# Altium footprint library SparkFun-Connectors.PCBLIB: 305 footprints (part 4 of 20)
Each footprint in its own frame and in the unit in brackets; x right, y up, seen from the top. Pads: shape width x height; smd on the part's side, far side on the other; paste and mask are expansions set on the pad; w line width, h text height; cw(c..) or ccw(c..) is an arc to the next point about the centre after c.
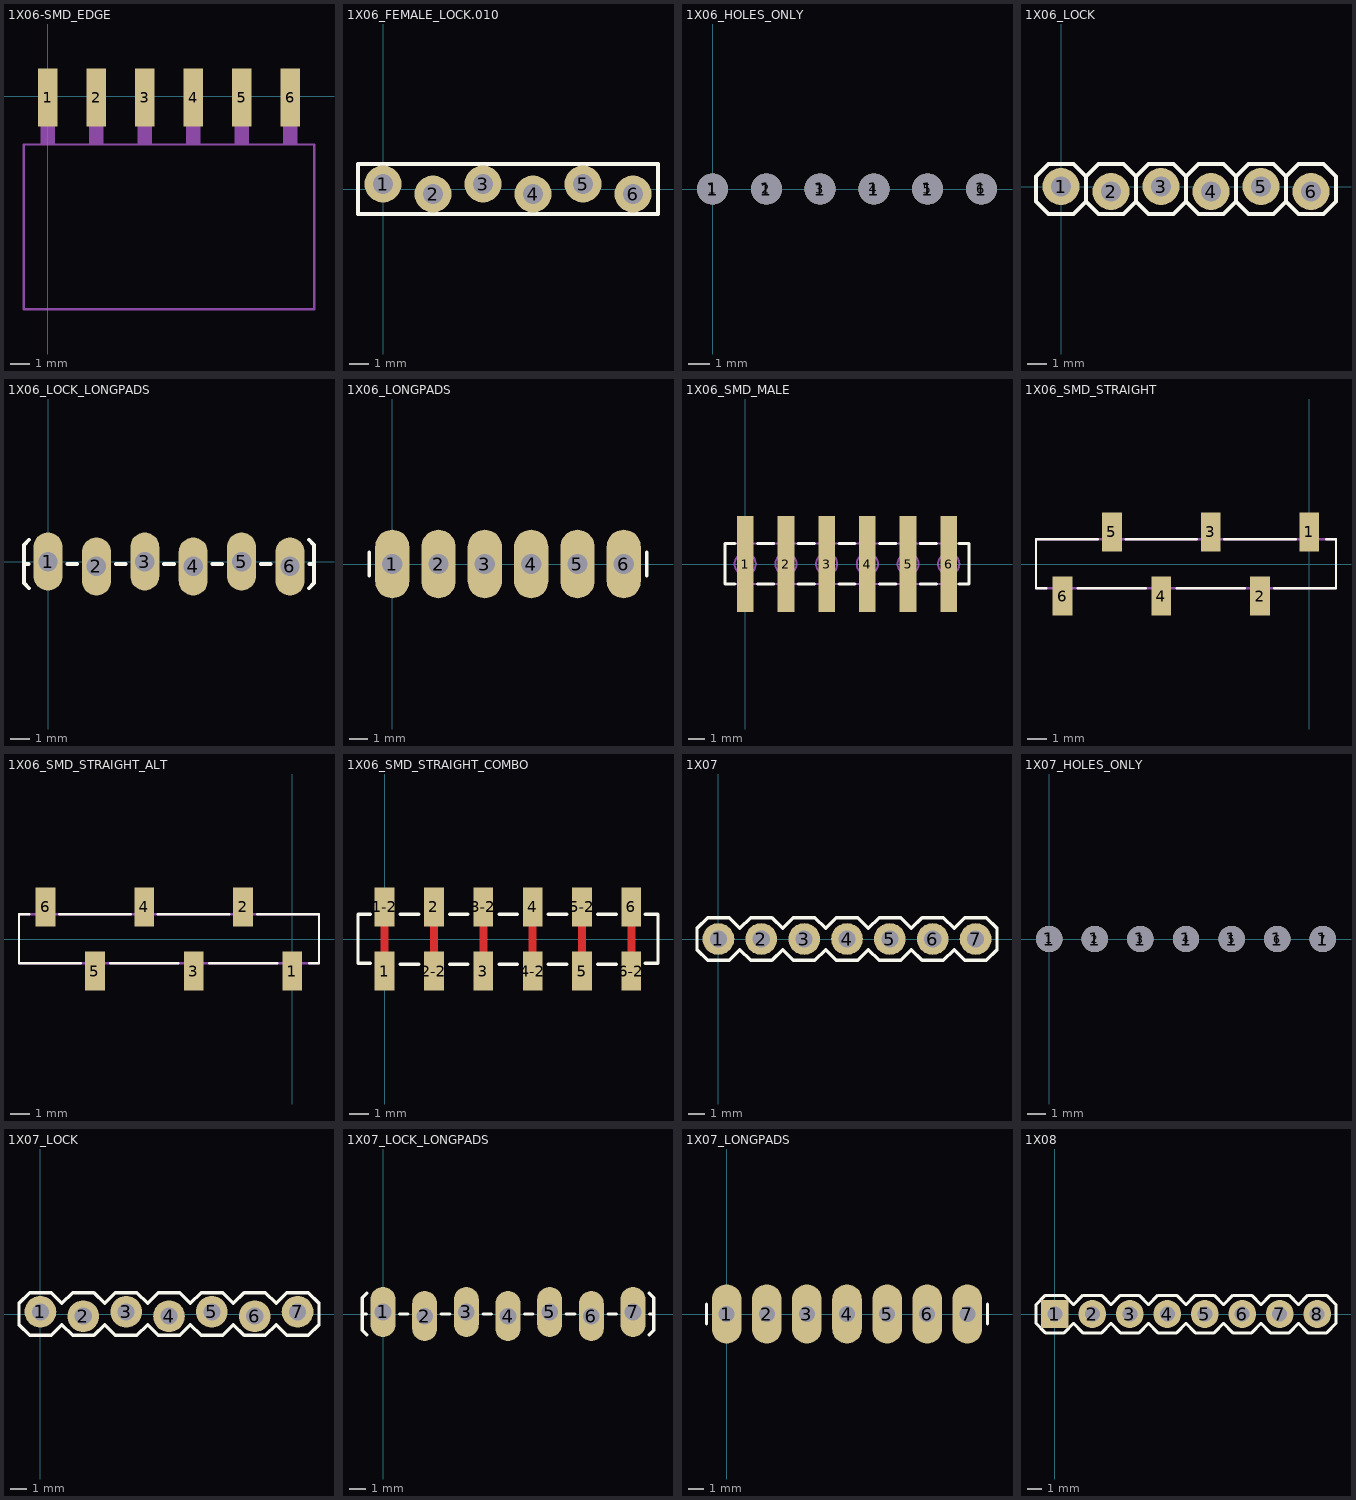
[diagram p3: the footprints below, top view; thin cyan lines are the x and y axes]

## 1X06-SMD_EDGE [mil]
pads (6):
  rect 40x119 smd: 1(0,-3.15) 2(100,-3.15) 3(200,-3.15) 4(300,-3.15) 5(400,-3.15) 6(500,-3.15)
Mechanical 16:
  rectangle: -15,-98 15,11
  rectangle: 85,-98 115,11
  rectangle: 185,-98 215,11
  rectangle: 285,-98 315,11
  rectangle: 385,-98 415,11
  rectangle: 485,-98 515,11
  lines w5: -50,-440 -50,-100 550,-100 550,-440 -50,-440
  text "thru-hole vertical Female Header" at 0,-250 h24.8
  text "used as an SMD part" at 0,-300 h24.8
  text "(placed horizontally, at board's edge)" at 0,-350 h24.8

## 1X06_FEMALE_LOCK.010 [mil]
pads (6):
  round 74 hole 40: 1(0,10) 2(100,-10) 3(200,10) 4(300,-10) 5(400,10) 6(500,-10)
Top Overlay:
  lines w8: -50,-50 -50,50 550,50 550,-50 -50,-50
Mechanical 16:
  rectangle: -12.5,-7.5 13,8
  rectangle: 88,-7.5 113,8
  rectangle: 188,-7.5 213,8
  rectangle: 288,-7.5 313,8
  rectangle: 388,-7.5 413,8
  rectangle: 488,-7.5 513,8

## 1X06_HOLES_ONLY [mil]
pads (12):
  round 32 hole 35: 1(0,0) 2(100,0) 3(200,0) 4(300,0) 5(400,0) 6(500,0)
  round 58 hole 58: 1(0,0) 1(100,0) 1(200,0) 1(300,0) 1(400,0) 1(500,0)
Mechanical 16:
  circle w5: c0,0 r25
  circle w5: c100,0 r25
  circle w5: c200,0 r25
  circle w5: c300,0 r25
  circle w5: c400,0 r25
  circle w5: c500,0 r25

## 1X06_LOCK [mil]
pads (6):
  round 74 hole 40: 1(0,0) 2(100,-10) 3(200,0) 4(300,-10) 5(400,0) 6(500,-10)
Top Overlay:
  lines w8: 50,-30 75,-55 125,-55 150,-30 ; 50,-30 25,-55 -25,-55 -50,-30 -50,20 -25,45 25,45 50,20 ; 50,-30 50,20 ; 50,20 75,45 125,45 150,20 ; 150,-30 175,-55 225,-55 250,-30 ; 150,-30 150,20 ; 150,20 175,45 225,45 250,20 ; 250,-30 275,-55 325,-55 350,-30 ; 250,-30 250,20 ; 250,20 275,45 325,45 350,20 ; 350,-30 375,-55 425,-55 450,-30 ; 350,-30 350,20 ; 350,20 375,45 425,45 450,20 ; 450,-30 475,-55 525,-55 550,-30 550,20 525,45 475,45 450,20 ; 450,-30 450,20
Mechanical 16:
  rectangle: -11.5,-16.5 12,7
  rectangle: 89,-16.5 112,7
  rectangle: 189,-16.5 212,7
  rectangle: 289,-16.5 312,7
  rectangle: 389,-16.5 412,7
  rectangle: 489,-16.5 512,7

## 1X06_LOCK_LONGPADS [mil]
pads (6):
  oval 60x120 hole 40: 1(0,0) 2(100,-10) 3(200,0) 4(300,-10) 5(400,0) 6(500,-10)
Top Overlay:
  lines w8: -40,-5 -50,-5 ; -39,-55 -50,-44 -50,-5 ; -39,45 -50,34 -50,-5 ; 40,-5 60,-5 ; 140,-5 160,-5 ; 240,-5 260,-5 ; 340,-5 360,-5 ; 440,-5 460,-5 ; 539,-55 550,-44 550,-5 ; 539,45 550,34 550,-5 ; 540,-5 550,-5
Mechanical 16:
  rectangle: -11.5,-16.5 12,7
  rectangle: 89,-16.5 112,7
  rectangle: 189,-16.5 212,7
  region: 312.25,-16.25 312.25,6.75 288.75,6.75 288.75,-16.25
  rectangle: 389,-16.5 412,7
  rectangle: 489,-16.5 512,7

## 1X06_LONGPADS [mil]
pads (6):
  oval 74x148 hole 44: 1(0,0) 2(100,0) 3(200,0) 4(300,0) 5(400,0) 6(500,0)
Top Overlay:
  lines w8: -50,-25 -50,25 ; 550,-25 550,25
Mechanical 16:
  rectangle: 490,-10 510,10
  rectangle: 390,-10 410,10
  rectangle: 290,-10 310,10
  rectangle: 190,-10 210,10
  rectangle: 90,-10 110,10
  rectangle: -10,-10 10,10

## 1X06_SMD_MALE [mil]
pads (6):
  rect 41x237 smd: 1(0,0) 2(100,0) 3(200,0) 4(300,0) 5(400,0) 6(500,0)
Top Overlay:
  lines w7: -25,-49.21 -50,-49.21 -50,50 -25,50 ; 30,-49.21 70,-49.21 ; 30,50 70,50 ; 130,-49.21 170,-49.21 ; 130,50 170,50 ; 230,-49.21 270,-49.21 ; 230,50 270,50 ; 330,-49.21 370,-49.21 ; 330,50 370,50 ; 430,-49.21 470,-49.21 ; 430,50 470,50 ; 525,-49.21 550,-49.21 550,50 525,50
Mechanical 16:
  circle w5: c0,0 r26
  circle w5: c100,0 r26
  circle w5: c200,0 r26
  circle w5: c300,0 r26
  circle w5: c400,0 r26
  circle w5: c500,0 r26
  rectangle: -12.6,0 13,109
  rectangle: 188,0 213,109
  rectangle: 388,0 413,109
  region: 113,0 88,0 88,-108.27 113,-108.27
  region: 313,0 288,0 288,-108.27 313,-108.27
  region: 513,0 488,0 488,-108.27 513,-108.27
  lines w5: -50,-49.21 -50,50 550,50 550,-49.21 -50,-49.21

## 1X06_SMD_STRAIGHT [mil]
pads (6):
  rect 40x79 smd: 1(0,65) 2(-100,-64.96) 3(-200,65) 4(-300,-64.96) 5(-400,65) 6(-500,-64.96)
Top Overlay:
  lines w5: -533.46,-49.21 -553.94,-49.21 -553.94,50 -428.46,50 ; -468.94,-49.21 -331.06,-49.21 ; -372.32,50 -227.68,50 ; -268.94,-49.21 -131.06,-49.21 ; -172.32,50 -27.68,50 ; -71.54,-49.21 54,-49.21 54,50 34,50
Mechanical 16:
  lines w5: -553.94,-49.21 -553.94,50 54,50 54,-49.21 -553.94,-49.21

## 1X06_SMD_STRAIGHT_ALT [mil]
pads (6):
  rect 40x79 smd: 1(0,-64.96) 2(-100,65) 3(-200,-64.96) 4(-300,65) 5(-400,-64.96) 6(-500,65)
Top Overlay:
  lines w5: -533.46,50 -553.94,50 -553.94,-49.21 -428.46,-49.21 ; -472.32,50 -327.68,50 ; -368.94,-49.21 -231.06,-49.21 ; -272.32,50 -127.68,50 ; -168.94,-49.21 -31.06,-49.21 ; -71.54,50 54,50 54,-49.21 34,-49.21
Mechanical 16:
  lines w5: -553.94,-49.21 -553.94,50 54,50 54,-49.21 -553.94,-49.21

## 1X06_SMD_STRAIGHT_COMBO [mil]
pads (12):
  rect 40x79 smd: 1(0,-64.96) 1-2(0,65) 2(100,65) 2-2(100,-64.96) 3(200,-64.96) 3-2(200,65) 4(300,65) 4-2(300,-64.96) 5(400,-64.96) 5-2(400,65) 6(500,65) 6-2(500,-64.96)
Top Layer:
  lines w16: 0,-50 0,50 ; 100,-50 100,50 ; 200,-50 200,50 ; 300,-50 300,50 ; 400,-50 400,50 ; 500,-50 500,50
Top Overlay:
  lines w7: -28.74,-49.21 -53.94,-49.21 -53.94,50 -28.74,50 ; 32,-50.79 69,-50.79 ; 32,50 69,50 ; 132,-50.79 169,-50.79 ; 132,50 169,50 ; 232,-50.79 269,-50.79 ; 232,50 269,50 ; 332,-50.79 369,-50.79 ; 332,50 369,50 ; 432,-50.79 469,-50.79 ; 432,50 469,50 ; 528,-49.21 554,-49.21 554,50 528,50

## 1X07 [mil]
pads (7):
  round 74 hole 40: 1(0,0) 2(100,0) 3(200,0) 4(300,0) 5(400,0) 6(500,0) 7(600,0)
Top Overlay:
  lines w8: -50,-25 -50,25 -25,50 25,50 50,25 75,50 125,50 150,25 175,50 225,50 250,25 275,50 325,50 350,25 375,50 425,50 450,25 475,50 525,50 550,25 575,50 625,50 650,25 650,-25 625,-50 575,-50 550,-25 525,-50 475,-50 450,-25 425,-50 375,-50 350,-25 325,-50 275,-50 250,-25 225,-50 175,-50 150,-25 125,-50 75,-50 50,-25 25,-50 -25,-50 -50,-25
Mechanical 16:
  rectangle: 590,-10 610,10
  rectangle: 490,-10 510,10
  rectangle: 390,-10 410,10
  rectangle: 290,-10 310,10
  rectangle: 190,-10 210,10
  rectangle: 90,-10 110,10
  rectangle: -10,-10 10,10

## 1X07_HOLES_ONLY [mil]
pads (14):
  round 32 hole 35: 1(0,0) 2(100,0) 3(200,0) 4(300,0) 5(400,0) 6(500,0) 7(600,0)
  round 58 hole 58: 1(0,0) 1(100,0) 1(200,0) 1(300,0) 1(400,0) 1(500,0) 1(600,0)
Mechanical 16:
  circle w5: c0,0 r25
  circle w5: c100,0 r25
  circle w5: c200,0 r25
  circle w5: c300,0 r25
  circle w5: c400,0 r25
  circle w5: c500,0 r25
  circle w5: c600,0 r25

## 1X07_LOCK [mil]
pads (7):
  round 74 hole 40: 1(0,5) 2(100,-5) 3(200,5) 4(300,-5) 5(400,5) 6(500,-5) 7(600,5)
Top Overlay:
  lines w8: -50,-25 -50,25 -25,50 25,50 50,25 75,50 125,50 150,25 175,50 225,50 250,25 275,50 325,50 350,25 375,50 425,50 450,25 475,50 525,50 550,25 575,50 625,50 650,25 650,-25 625,-50 575,-50 550,-25 525,-50 475,-50 450,-25 425,-50 375,-50 350,-25 325,-50 275,-50 250,-25 225,-50 175,-50 150,-25 125,-50 75,-50 50,-25 25,-50 -25,-50 -50,-25
Mechanical 16:
  rectangle: 590,-10 610,10
  rectangle: 490,-10 510,10
  rectangle: 390,-10 410,10
  rectangle: 290,-10 310,10
  rectangle: 190,-10 210,10
  rectangle: 90,-10 110,10
  rectangle: -10,-10 10,10

## 1X07_LOCK_LONGPADS [mil]
pads (7):
  oval 60x120 hole 40: 1(0,5) 2(100,-5) 3(200,5) 4(300,-5) 5(400,5) 6(500,-5) 7(600,5)
Top Overlay:
  lines w8: -40,0 -50,0 ; -39,-50 -50,-39 -50,0 ; -39,50 -50,39 -50,0 ; 40,0 60,0 ; 140,0 160,0 ; 240,0 260,0 ; 340,0 360,0 ; 440,0 460,0 ; 540,0 560,0 ; 639,-50 650,-39 650,0 ; 639,50 650,39 650,0 ; 640,0 650,0
Mechanical 16:
  rectangle: -11.5,-11.5 12,12
  rectangle: 89,-11.5 112,12
  rectangle: 189,-11.5 212,12
  region: 312.25,-11.25 312.25,11.75 288.75,11.75 288.75,-11.25
  rectangle: 389,-11.5 412,12
  rectangle: 489,-11.5 512,12
  rectangle: 589,-11.5 612,12

## 1X07_LONGPADS [mil]
pads (7):
  oval 74x148 hole 40: 1(0,0) 2(100,0) 3(200,0) 4(300,0) 5(400,0) 6(500,0) 7(600,0)
Top Overlay:
  lines w8: -50,-25 -50,25 ; 650,-25 650,25
Mechanical 16:
  rectangle: 590,-10 610,10
  rectangle: 490,-10 510,10
  rectangle: 390,-10 410,10
  rectangle: 290,-10 310,10
  rectangle: 190,-10 210,10
  rectangle: 90,-10 110,10
  rectangle: -10,-10 10,10

## 1X08 [mil]
pads (8):
  rect 74x74 hole 40: 1(0,0)
  round 74 hole 40: 2(100,0) 3(200,0) 4(300,0) 5(400,0) 6(500,0) 7(600,0) 8(700,0)
Top Overlay:
  lines w8: -50,-25 -50,25 -25,50 25,50 50,25 75,50 125,50 150,25 175,50 225,50 250,25 275,50 325,50 350,25 375,50 425,50 450,25 475,50 525,50 550,25 575,50 625,50 650,25 675,50 725,50 750,25 750,-25 725,-50 675,-50 650,-25 625,-50 575,-50 550,-25 525,-50 475,-50 450,-25 425,-50 375,-50 350,-25 325,-50 275,-50 250,-25 225,-50 175,-50 150,-25 125,-50 75,-50 50,-25 25,-50 -25,-50 -50,-25
Mechanical 16:
  rectangle: 590,-10 610,10
  rectangle: 490,-10 510,10
  rectangle: 390,-10 410,10
  rectangle: 290,-10 310,10
  rectangle: 190,-10 210,10
  rectangle: 90,-10 110,10
  rectangle: -10,-10 10,10
  rectangle: 690,-10 710,10